# Altium footprint library aruna_pcb_card.PcbLib: 41 footprints (part 3 of 3)
Each footprint in its own frame and in the unit in brackets; x right, y up, seen from the top. Pads: shape width x height; smd on the part's side, far side on the other; paste and mask are expansions set on the pad; w line width, h text height; cw(c..) or ccw(c..) is an arc to the next point about the centre after c.
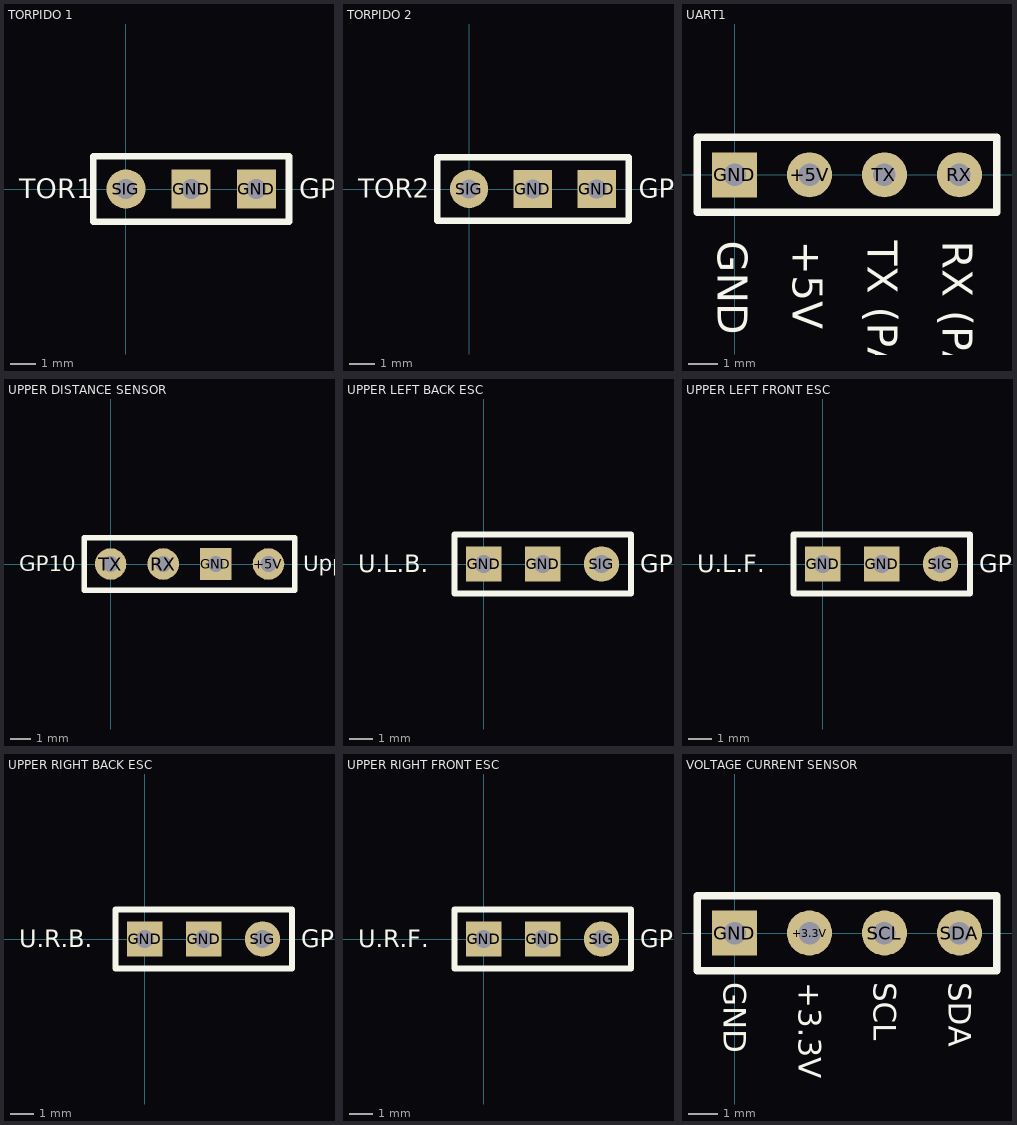
[diagram p2: the footprints below, top view; thin cyan lines are the x and y axes]

## TORPIDO 1 [mil]
pads (3):
  rect 60x60 hole 30: GND(100,0) GND(200,0)
  round 60 hole 30: SIG(0,0)
Top Overlay:
  lines w10: -50,-50 -50,50 250,50 250,-50 -50,-50
  text "GP14" at 266,-14 h30
  text "TOR1" at -164,-14 h30
3D body "3 pin 1 Row 2.54mm Male Pin Header.stp": height 350, standoff -80, extent -50,-50 250,50

## TORPIDO 2 [mil]
pads (3):
  rect 60x60 hole 30: GND(100,0) GND(200,0)
  round 60 hole 30: SIG(0,0)
Top Overlay:
  lines w10: -50,-50 250,-50 250,50 -50,50 -50,-50
  text "TOR2" at -174,-14 h30
  text "GP15" at 266,-14 h30
3D body "3 pin 1 Row 2.54mm Male Pin Header.stp": height 350, standoff -80, extent -50,-50 250,50

## UART1 [mil]
pads (4):
  round 60 hole 30: +5V(100,0) RX(300,0) TX(200,0)
  rect 60x60 hole 30: GND(0,0)
Top Overlay:
  lines w10: -50,-50 350,-50 350,50 -50,50 -50,-50
  text "TX (PA10)" at 178,-88 h40
  text "GND" at -22,-87.99 h40
  text "RX (PA9)" at 278,-88 h40
  text "+5V" at 78,-88 h40
3D body "4 pin 1 Row 2.54mm Male Pin Header.stp": height 330, standoff -115, extent -50,-49 350,49

## UPPER DISTANCE SENSOR [mil]
pads (4):
  round 60 hole 30: +5V(300,0) RX(100,0) TX(0,0)
  rect 60x60 hole 30: GND(200,0)
Top Overlay:
  lines w10: -50,-50 350,-50 350,50 -50,50 -50,-50
  text "Upper" at 366,-14 h30
  text "GP10" at -174,-14 h30
3D body "4 pin 1 Row 2.54mm Male Pin Header.stp": height 330, standoff -115, extent -50,-49 350,49

## UPPER LEFT BACK ESC [mil]
pads (3):
  rect 60x60 hole 30: GND(0,0) GND(100,0)
  round 60 hole 30: SIG(200,0)
Top Overlay:
  lines w10: -50,-50 250,-50 250,50 -50,50 -50,-50
  text "U.L.B." at -214,-14 h30
  text "GP19" at 266,-14 h30
3D body "3 pin 1 Row 2.54mm Male Pin Header.stp": height 350, standoff -80, extent -50,-50 250,50

## UPPER LEFT FRONT ESC [mil]
pads (3):
  rect 60x60 hole 30: GND(0,0) GND(100,0)
  round 60 hole 30: SIG(200,0)
Top Overlay:
  lines w10: -50,-50 250,-50 250,50 -50,50 -50,-50
  text "U.L.F." at -214,-14 h30
  text "GP17" at 266,-14 h30
3D body "3 pin 1 Row 2.54mm Male Pin Header.stp": height 350, standoff -80, extent -50,-50 250,50

## UPPER RIGHT BACK ESC [mil]
pads (3):
  rect 60x60 hole 30: GND(0,0) GND(100,0)
  round 60 hole 30: SIG(200,0)
Top Overlay:
  lines w10: -50,-50 250,-50 250,50 -50,50 -50,-50
  text "U.R.B." at -214,-14 h30
  text "GP18" at 266,-14 h30
3D body "3 pin 1 Row 2.54mm Male Pin Header.stp": height 350, standoff -80, extent -50,-50 250,50

## UPPER RIGHT FRONT ESC [mil]
pads (3):
  rect 60x60 hole 30: GND(0,0) GND(100,0)
  round 60 hole 30: SIG(200,0)
Top Overlay:
  lines w10: -50,-50 250,-50 250,50 -50,50 -50,-50
  text "U.R.F." at -214,-14 h30
  text "GP16" at 266,-14 h30
3D body "3 pin 1 Row 2.54mm Male Pin Header.stp": height 350, standoff -80, extent -50,-50 250,50

## VOLTAGE CURRENT SENSOR [mil]
pads (4):
  round 60 hole 30: +3.3V(100,0) SCL(200,0) SDA(300,0)
  rect 60x60 hole 30: GND(0,0)
Top Overlay:
  lines w10: -50,-50 350,-50 350,50 -50,50 -50,-50
  text "GND" at -14,-66 h30
  text "+3.3V" at 86,-66 h30
  text "SDA" at 286,-66 h30
  text "SCL" at 186,-66 h30
3D body "4 pin 1 Row 2.54mm Male Pin Header.stp": height 330, standoff -115, extent -50,-48 350,50